# EAGLE library part H11_OPTO (library Icotech_Eagle_Library)
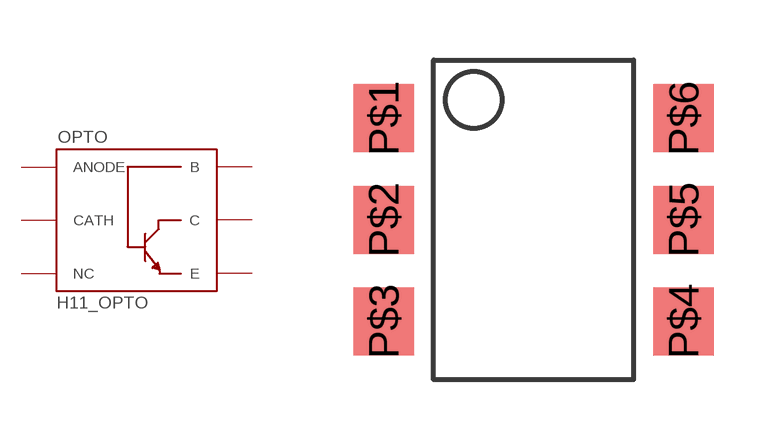
[diagram p1: symbol with the pads of DIL06; footprint DIL06]

Designator prefix OPTO

## H11_OPTO  [DIL06]
P$1  ANODE
P$2  CATH
P$3  NC
P$4  E
P$5  C
P$6  B

## Footprint DIL06 (pad centres in mm)
smd 1.52 x 1.7: P$1 -3.75,2.54; P$2 -3.75,0; P$3 -3.75,-2.54; P$4 3.75,-2.54; P$5 3.75,0; P$6 3.75,2.54